# Altium schematic symbol library fairchild-opto.SchLib: 1 symbol
Pins are listed as number, name and electrical type; pins without a type are passive.

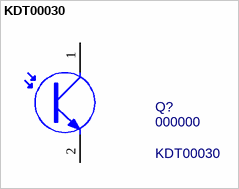
[diagram p0: symbol KDT00030]

## KDT00030
designator Q?, comment 000000  value KDT00030
NPN Phototransistor Photo Detector; MF: Fairchild; PN: 000000; Package: 0603; ExtraInfo: *
footprint KDT00030 (Photo Transistor)
pins: 1 C, 2 E